# Altium schematic symbol library RFID.SCHLIB: 43 symbols
Pins are listed as number, name and electrical type; pins without a type are passive.

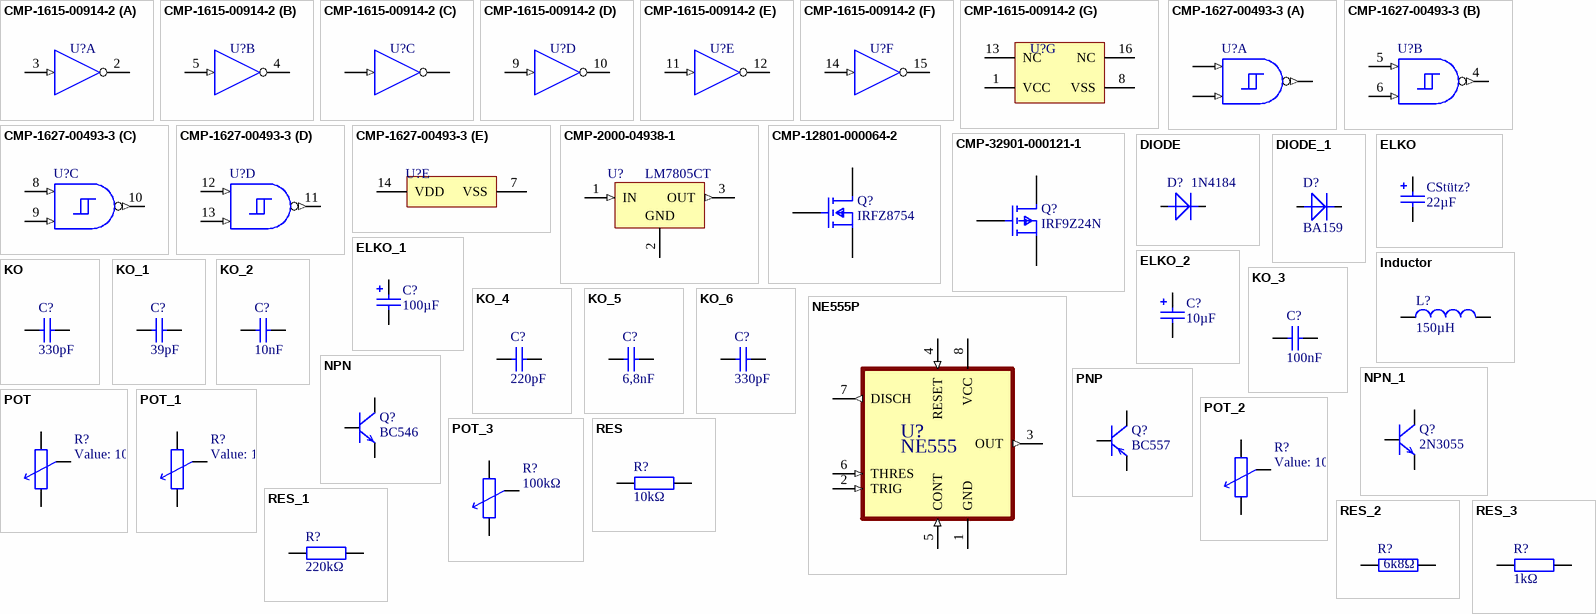
[diagram p0: symbols CMP-1615-00914-2 to RES_3]

## CMP-1615-00914-2
designator U?, comment CD4049UBE  (value not drawn)
CMOS Hex Inverting Buffer/Converter, N0016A, TUBE; Manufacturer: Texas Instruments; Rating: Military; Voltage(Nom)(V): 5; VCC(Min)(V): 3; VCC(Max)(V): 18; Output Drive (IOL/IOH)(Max)(mA): -1.2/5.2; ICC @ Nom Voltage(Max)(mA): 0.03; F @ Nom Voltage(Max)(Mhz): 12; tpd @ Nom Voltage(Max)(ns): 120; Technology Family: CD4000; Schmitt Trigger: No; Bits(#): 6; Code_JEDEC: MS-001; DatasheetVersion: SCHS046I; Generic Part Number: CD4049UB; Input Type: CMOS; Output Type: CMOS; PackageReference: N0016A; Operating Temperature Range(C): -55 to 125
footprint N0016A (DIP, 16-Leads, Body 19.7x6.6mm, Pitch 2.54mm)
part A pins: 2 G=~{A}, 3 A (in)
part B pins: 4 H=~{B}, 5 B (in)
part C pins: 6 I=~{C}, 7 C (in)
part D pins: 9 D (in), 10 J=~{D}
part E pins: 11 E (in), 12 K=~{E}
part F pins: 14 F (in), 15 L=~{F}
part G pins: 1 VCC (power), 8 VSS (power), 13 NC, 16 NC

## CMP-1627-00493-3
designator U?, comment CD4093BE  (value not drawn)
CMOS Quad 2-Input NAND Schmitt Triggers, N0014A, TUBE; Manufacturer: Texas Instruments; ICC @ Nom Voltage(Max)(mA): 0.06; VCC(Min)(V): 3; Rating: Catalog; Bits(#): 4; Technology Family: CD4000; Output Drive (IOL/IOH)(Max)(mA): 1.5/-1.5; VCC(Max)(V): 18; Voltage(Nom)(V): 10; Schmitt Trigger: Yes; F @ Nom Voltage(Max)(Mhz): 8; DatasheetVersion: SCHS115D; PackageReference: N0014A; Code_JEDEC: MS-001; Output Type: CMOS; Input Type: CMOS; Generic Part Number: CD4093B; Operating Temperature Range(C): -55 to 125
footprint N0014A (DIP, 14-Leads, Body 19.7x6.6mm, Pitch 2.54mm)
part A pins: 1 A (in), 2 B (in), 3 J (out)
part B pins: 4 K (out), 5 C (in), 6 D (in)
part C pins: 8 E (in), 9 F (in), 10 L (out)
part D pins: 11 M (out), 12 G (in), 13 H (in)
part E pins: 7 VSS (power), 14 VDD (power)

## CMP-2000-04938-1
designator U?, comment LM7805CT
Positive Voltage Regulator, 5 V, 1 A, -40 to 125 degC, 3-Pin TO-220, RoHS, Tube; Manufacturer: FairchildSemiconductor; Maximum Input Voltage: 35V; Maximum Quiescent Current: 8mA; Load Regulation: 100mV; Maximum Output Current: 2.2(Typ)A; Output Type: Fixed; Typical Dropout Voltage @ Current: 2@1AV; Rad Hard: No; Output Voltage: 5V; Accuracy: ±4%; Number of Outputs: 1; Category: LinearRegulator; Package Description: 3-Pin Through Hole Device, Body 10 x 4.5 mm, Pitch 2.54 mm; Packaging: Rail/Tube; Mounting: ThroughHole; Polarity: Positive; Manufacturer URL: https://www.fairchildsemi.com/; Line Regulation: 100mV; Datasheet Version: Aug-12; Datasheet URL: https://datasheet.ciiva.com/26904/lm7805ct-26904988.pdf; Package Reference: TO-220; Package URL: https://www.fairchildsemi.com/package-drawings/TO/TO220B03.pdf; Package: 3TO-220AB; Operating Temperature: -40to125degC; Type: Linear
footprint FAIR-TO-220-3 (FM, 3-Leads, Body 10.2x4.7mm, Pitch 2.54mm)
pins: 1 IN (in), 2 GND (power), 3 OUT (out)

## CMP-12801-000064-2
designator Q?, comment IRFZ8754
MOSFET N-CH 60V .15MA SOT23-3; On-State Resistance: 5R; Continuous Drain Current (ID): 150mA; Threshold Voltage: 3V; Number of Channels: 1; Gate to Source Voltage (Vgs): 20V; Turn-On Delay Time: 10ns; Power Dissipation: 330mW; Element Configuration: Single; Input Capacitance: 60pF; Weight: 0.000282oz; Height: 1mm; Max Operating Temperature: 150°C; Dual Supply Voltage: 60V; Termination: SMD/SMT; Number of Pins: 3; Number of Elements: 1; Mount: Surface Mount; Min Operating Temperature: -55°C; Nominal Vgs: 3V; Width: 1.4mm; Drain to Source Breakdown Voltage: 60V; Turn-Off Delay Time: 10ns; Case/Package: SOT-23; REACH SVHC: No SVHC; Packaging: Tape and Reel; Length: 3.05mm; Max Power Dissipation: 330mW; Rds On Max: 5R; Lead Free: Lead Free; Contact Plating: Tin; Drain to Source Resistance: 5R; Drain to Source Voltage (Vdss): 60V; Package Quantity: 3000; Current Rating: 150mA; Voltage Rating (DC): 60V
footprint FP-SOT23-IPC_A
footprint FP-SOT23-MFG
footprint FP-SOT23-IPC_B
footprint FP-SOT23-IPC_C
pins: 2 S, 3 D, G1 G

## CMP-32901-000121-1
designator Q?, comment IRF9Z24N
MOSFET P-CH 60V 150MA SOT-323; Manufacturer: Infineon; Manufacturer Part Number: BSS84PWH6327XTSA1; Automotive Grade: Grade 0; Turn On Delay Time: 6.7ns; Input Capacitace At Vds: 15.3pF @ -25V; Continuous Drain Current: -0.15A; Transconductance: 0.16S; Depletion Mode: False; Max Forward Diode Voltage: -1.12V; Number Of P Channels: 1; Reverse Recovery Charge: 11.6nC; Reverse Recovery Time: 23.6ns; Drain To Source Breakdown Voltage: -60V; Typ Forward Diode Voltage: -0.84V; Threshold Vgs Max: -2V; Turn Off Delay Time: 8.6ns; Gate Charge At Vgs: 1nC @ -10V; Power Dissipation: 0.3W; Pulse Drain Current: -0.6A; Max Junction Temp: +150°C; Gate To Source Voltage: 20V; Rthja Max: 420K/W; Drain To Source Resistance: 6.9Ω; Threshold Vgs Min: -1V; Footprint Url: https://www.infineon.com/cms/en/product/packages/PG-SOT323/PG-SOT323-3-2/; ComponentLink2URL: https://www.infineon.com/dgdl/Infineon-BSS84PW-DS-v02_00-EN.pdf?fileId=db3a3043321e49940132482056d32474; Temperature Range Low: -55°C; Temperature: -55°C to +150°C; Octopart: https://octopart.com/bss84pwh6327xtsa1-infineon-22361355; Category: Trans; Height: 1mm; Lead Free: Yes; Ipc Land Pattern Name: SOT65P210X90-3; Automotive: Yes; Number Of Channels: 1; Digikey Description: MOSFET P-CH 60V 150MA SOT-323; ComponentLink2Description: Datasheet; Device Class L2: Transistors; Drain To Source Voltage: -60V; Temperature Range High: +150°C; Device Class L1: Discrete Semiconductors; RoHS: TRUE; Mouser Description: MOSFET P-Ch -60V 150mA SOT-323-3; Device Class L3: MOSFETs; Package: PG-SOT323-3
footprint FP-PG-SOT323-3-IPC_A
footprint FP-PG-SOT323-3-IPC_B
footprint FP-PG-SOT323-3-MFG
footprint FP-PG-SOT323-3-IPC_C
pins: 2 S, 3 D, G2 G

## DIODE
designator D?, comment 1N4184
Diode
footprint Diode-0.4
footprint Diode-0.5
footprint DIODE-0.4/085
footprint DIODE-0.6
pins: 1 A, 2 K

## DIODE_1
designator D?, comment BA159
Diode
footprint Diode-0.4
footprint Diode-0.5
footprint DIODE-0.4/085
footprint DIODE-0.6
pins: 1 A, 2 K

## ELKO
designator CStütz?  value 22µF  (hidden comment: ELKO)
footprint RB-.1/.2
footprint RB-.1/.3
footprint RB-.2/.4
footprint RB-.3/.6
simulation model Model Name (Model Description)
pins: 1, 2

## ELKO_1
designator C?, comment value 100µF  (hidden comment: ELKO)
footprint RB-.1/.2
footprint RB-.1/.3
footprint RB-.2/.4
footprint RB-.3/.6
simulation model Model Name (Model Description)
pins: 1, 2

## ELKO_2
designator C?, comment value 10µF  (hidden comment: ELKO)
footprint RB-.1/.2
footprint RB-.1/.3
footprint RB-.2/.4
footprint RB-.3/.6
simulation model Model Name (Model Description)
pins: 1, 2

## Inductor
designator L?  value 150µH  (hidden comment: Inductor)
SimulationGenericComponent: True
simulation model L_Inductor_Default (INDUCTOR)
pins: 1, 2

## KO
designator C?, comment 330pF
Kondensator
footprint rad-7.2/2.5/5
footprint RAD-7.2/3.5/5
footprint 0603
footprint 0805
footprint 1206
simulation model Model Name (Model Description)
pins: 1, 2

## KO_1
designator C?, comment value 39pF  (hidden comment: KO)
Kondensator
footprint rad-7.2/2.5/5
footprint RAD-7.2/3.5/5
footprint 0603
footprint 0805
footprint 1206
simulation model Model Name (Model Description)
pins: 1, 2

## KO_2
designator C?, comment value 10nF  (hidden comment: KO)
Kondensator
footprint rad-7.2/2.5/5
footprint RAD-7.2/3.5/5
footprint 0603
footprint 0805
footprint 1206
simulation model Model Name (Model Description)
pins: 1, 2

## KO_3
designator C?, comment value 100nF  (hidden comment: KO)
Kondensator
footprint rad-7.2/2.5/5
footprint RAD-7.2/3.5/5
footprint 0603
footprint 0805
footprint 1206
simulation model Model Name (Model Description)
pins: 1, 2

## KO_4
designator C?, comment value 220pF  (hidden comment: KO)
Kondensator
footprint rad-7.2/2.5/5
footprint RAD-7.2/3.5/5
footprint 0603
footprint 0805
footprint 1206
simulation model Model Name (Model Description)
pins: 1, 2

## KO_5
designator C?, comment value 6,8nF  (hidden comment: KO)
Kondensator
footprint rad-7.2/2.5/5
footprint RAD-7.2/3.5/5
footprint 0603
footprint 0805
footprint 1206
simulation model Model Name (Model Description)
pins: 1, 2

## KO_6
designator C?, comment value 330pF  (hidden comment: KO)
Kondensator
footprint rad-7.2/2.5/5
footprint RAD-7.2/3.5/5
footprint 0603
footprint 0805
footprint 1206
simulation model Model Name (Model Description)
pins: 1, 2

## NE555P
designator U?, comment NE555
Single Precision Timer; MF: Texas; MP: NE555P; SnapEDA_Link: https://www.snapeda.com/parts/NE555P/Texas+Instruments/view-part/?ref=snap; Package: PDIP-8 Texas; Value: *; Check_prices: https://www.snapeda.com/parts/NE555P/Texas+Instruments/view-part/?ref=eda
footprint DIP794W45P254L959H508Q8
pins: 1 GND (power), 2 TRIG (in), 3 OUT (out), 4 RESET (in), 5 CONT (in), 6 THRES (in), 7 DISCH (out), 8 VCC (power)

## NPN
designator Q?, comment BC546
Transistor
footprint TO-92/EBC
footprint TO-220V
footprint TO-220H
pins: 1 B, 2 E, 3 C

## NPN_1
designator Q?, comment 2N3055
Transistor
footprint TO-92/EBC
footprint TO-220V
footprint TO-220H
pins: 1 B, 2 E, 3 C

## PNP
designator Q?, comment BC557
Transistor
footprint TO-92/EBC
footprint TO-220V
footprint TO-220H
pins: 1 B, 2 E, 3 C

## POT
designator R?  value 10kΩ  (hidden comment: POT)
Potentiometer; Set Position: 0.5
footprint PT15
footprint TP-.2/.4
footprint ALPS_V
simulation model Model Name (Model Description)
pins: 1, 2, 3

## POT_1
designator R?, comment value 10k  (hidden comment: POT)
Potentiometer; Set Position: 0.5
footprint PT15
footprint TP-.2/.4
footprint ALPS_V
simulation model Model Name (Model Description)
pins: 1, 2, 3

## POT_2
designator R?, comment value 100Ω  (hidden comment: POT)
Potentiometer; Set Position: 0.5
footprint PT15
footprint TP-.2/.4
footprint ALPS_V
simulation model Model Name (Model Description)
pins: 1, 2, 3

## POT_3
designator R?, comment value 100kΩ  (hidden comment: POT)
Potentiometer; Set Position: 0.5
footprint PT15
footprint TP-.2/.4
footprint ALPS_V
simulation model Model Name (Model Description)
pins: 1, 2, 3

## RES
designator R?  value 10kΩ  (hidden comment: RES)
Widerstand
footprint Axial-0.4
footprint Axial-0.7
footprint 0603
footprint 0805
footprint 1206
simulation model Model Name (Model Description)
pins: 1, 2

## RES_1
designator R?, comment value 220kΩ  (hidden comment: RES)
Widerstand
footprint Axial-0.4
footprint Axial-0.7
footprint 0603
footprint 0805
footprint 1206
simulation model Model Name (Model Description)
pins: 1, 2

## RES_2
designator R?, comment value 6k8Ω  (hidden comment: RES)
Widerstand
footprint Axial-0.4
footprint Axial-0.7
footprint 0603
footprint 0805
footprint 1206
simulation model Model Name (Model Description)
pins: 1, 2

## RES_3
designator R?, comment value 1kΩ  (hidden comment: RES)
Widerstand
footprint Axial-0.4
footprint Axial-0.7
footprint 0603
footprint 0805
footprint 1206
simulation model Model Name (Model Description)
pins: 1, 2

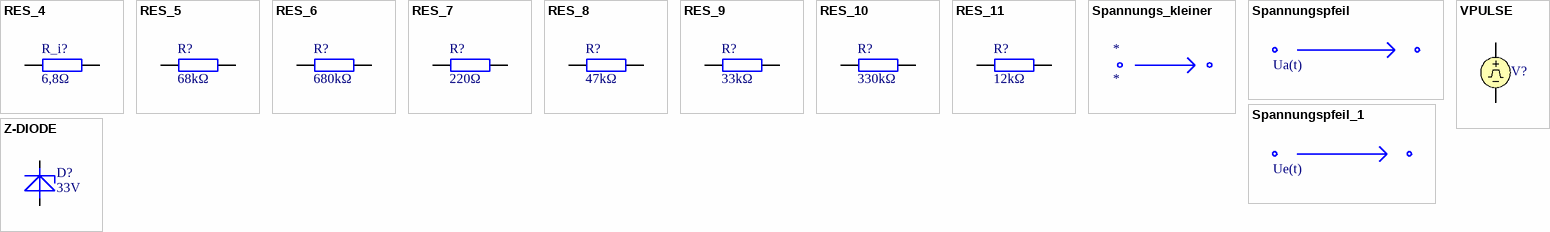
[diagram p1: symbols RES_4 to Z-DIODE]

## RES_4
designator R_i?, comment value 6,8Ω  (hidden comment: RES)
Widerstand
footprint Axial-0.4
footprint Axial-0.7
footprint 0603
footprint 0805
footprint 1206
simulation model Model Name (Model Description)
pins: 1, 2

## RES_5
designator R?, comment value 68kΩ  (hidden comment: RES)
Widerstand
footprint Axial-0.4
footprint Axial-0.7
footprint 0603
footprint 0805
footprint 1206
simulation model Model Name (Model Description)
pins: 1, 2

## RES_6
designator R?, comment value 680kΩ  (hidden comment: RES)
Widerstand
footprint Axial-0.4
footprint Axial-0.7
footprint 0603
footprint 0805
footprint 1206
simulation model Model Name (Model Description)
pins: 1, 2

## RES_7
designator R?, comment value 220Ω  (hidden comment: RES)
Widerstand
footprint Axial-0.4
footprint Axial-0.7
footprint 0603
footprint 0805
footprint 1206
simulation model Model Name (Model Description)
pins: 1, 2

## RES_8
designator R?, comment value 47kΩ  (hidden comment: RES)
Widerstand
footprint Axial-0.4
footprint Axial-0.7
footprint 0603
footprint 0805
footprint 1206
simulation model Model Name (Model Description)
pins: 1, 2

## RES_9
designator R?, comment value 33kΩ  (hidden comment: RES)
Widerstand
footprint Axial-0.4
footprint Axial-0.7
footprint 0603
footprint 0805
footprint 1206
simulation model Model Name (Model Description)
pins: 1, 2

## RES_10
designator R?, comment value 330kΩ  (hidden comment: RES)
Widerstand
footprint Axial-0.4
footprint Axial-0.7
footprint 0603
footprint 0805
footprint 1206
simulation model Model Name (Model Description)
pins: 1, 2

## RES_11
designator R?, comment value 12kΩ  (hidden comment: RES)
Widerstand
footprint Axial-0.4
footprint Axial-0.7
footprint 0603
footprint 0805
footprint 1206
simulation model Model Name (Model Description)
pins: 1, 2

## Spannungs_kleiner
designator *

## Spannungspfeil
designator *?, comment Ua(t)

## Spannungspfeil_1
designator *?, comment Ue(t)

## VPULSE
designator V?, comment PULSE(0 5 0 4u 1u 0 5u)  (value not drawn)
Pulse Voltage Source; Note: PCB Footprint - Not required; Initial Value: 0; Pulsed Value: 5; AC Magnitude: 1; Published: 8-Jun-2000; LatestRevisionDate: 15-Nov-2004; LatestRevisionNote: Corrected Netlist.; PackageReference: Not Applicable; Publisher: Altium Limited; Rise Time: 4u; Fall Time: 1u; Pulse Width: 0; Period: 5u; DC Magnitude: 0; AC Phase: 0
simulation model VPULSE
pins: 1, 2

## Z-DIODE
designator D?, comment 33V
Z-Diode
footprint DIODE-0.4
footprint SOD-80
pins: 1 A, 2 K